# EAGLE library part AS5047 (library encoders)
14bit Magnetic Encoder with SPI, ABI, UVW, and PWM outputs AS5047D : http://www.ams.com/content/download/595083/1609657/AS5047D_V1.0_Datasheet.pdf AS5147 : AEC-Q100 qualified : http://www.ams.com/content/download/595103/1609677/AS5147_V1_02_Datasheet.pdf
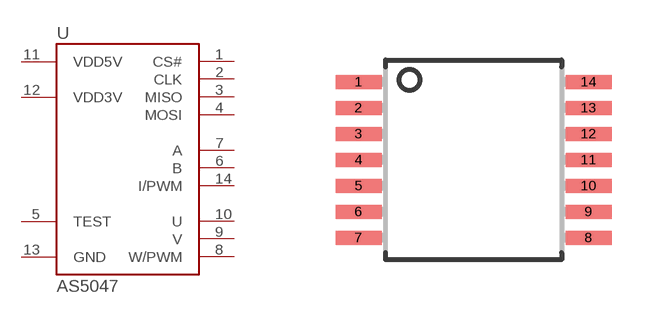
[diagram p0: symbol with the pads of TSSOP-14; footprint TSSOP-14]

Designator prefix U

## AS5047, AS5047-5047D (MF: AMS; MPN: AS5047D-ATSM; REVIEWED: NO; TESTED: NO; VALUE: AS5047)  [TSSOP-14]
1  CS#  in
2  CLK  in
3  MISO
4  MOSI  in
5  TEST  in
6  B  out
7  A  out
8  W/PWM  out
9  V  out
10  U  out
11  VDD5V  pwr
12  VDD3V  pwr
13  GND  pwr
14  I/PWM  out

## Footprint TSSOP-14 (pad centres in mm)
Based on AS5048 Datasheet Datasheet does not specify a footprint, this is derived from package dimensions. Toe set to .250mm, heel set to .300mm Height of package outline is max 1.2mm. Circular heights are supposed to help with placement of magnet. Allowing magnet to be centered and distance to be measured. The magnet should be 0.5 to 2.5mm from top of package. The top of the package is nominally 1.10mm from PCB. The Height of the magnet should be 1.6 to 3.6mm from PCB.
smd 1.15 x 0.35: 1 -2.875,1.95; 2 -2.875,1.3; 3 -2.875,0.65; 4 -2.875,0; 5 -2.875,-0.65; 6 -2.875,-1.3; 7 -2.875,-1.95; 8 2.875,-1.95; 9 2.875,-1.3; 10 2.875,-0.65; 11 2.875,0; 12 2.875,0.65; 13 2.875,1.3; 14 2.875,1.95